# Altium schematic symbol library стабилизаторы импульсные.SchLib: 52 symbols
Pins are listed as number, name and electrical type; pins without a type are passive.

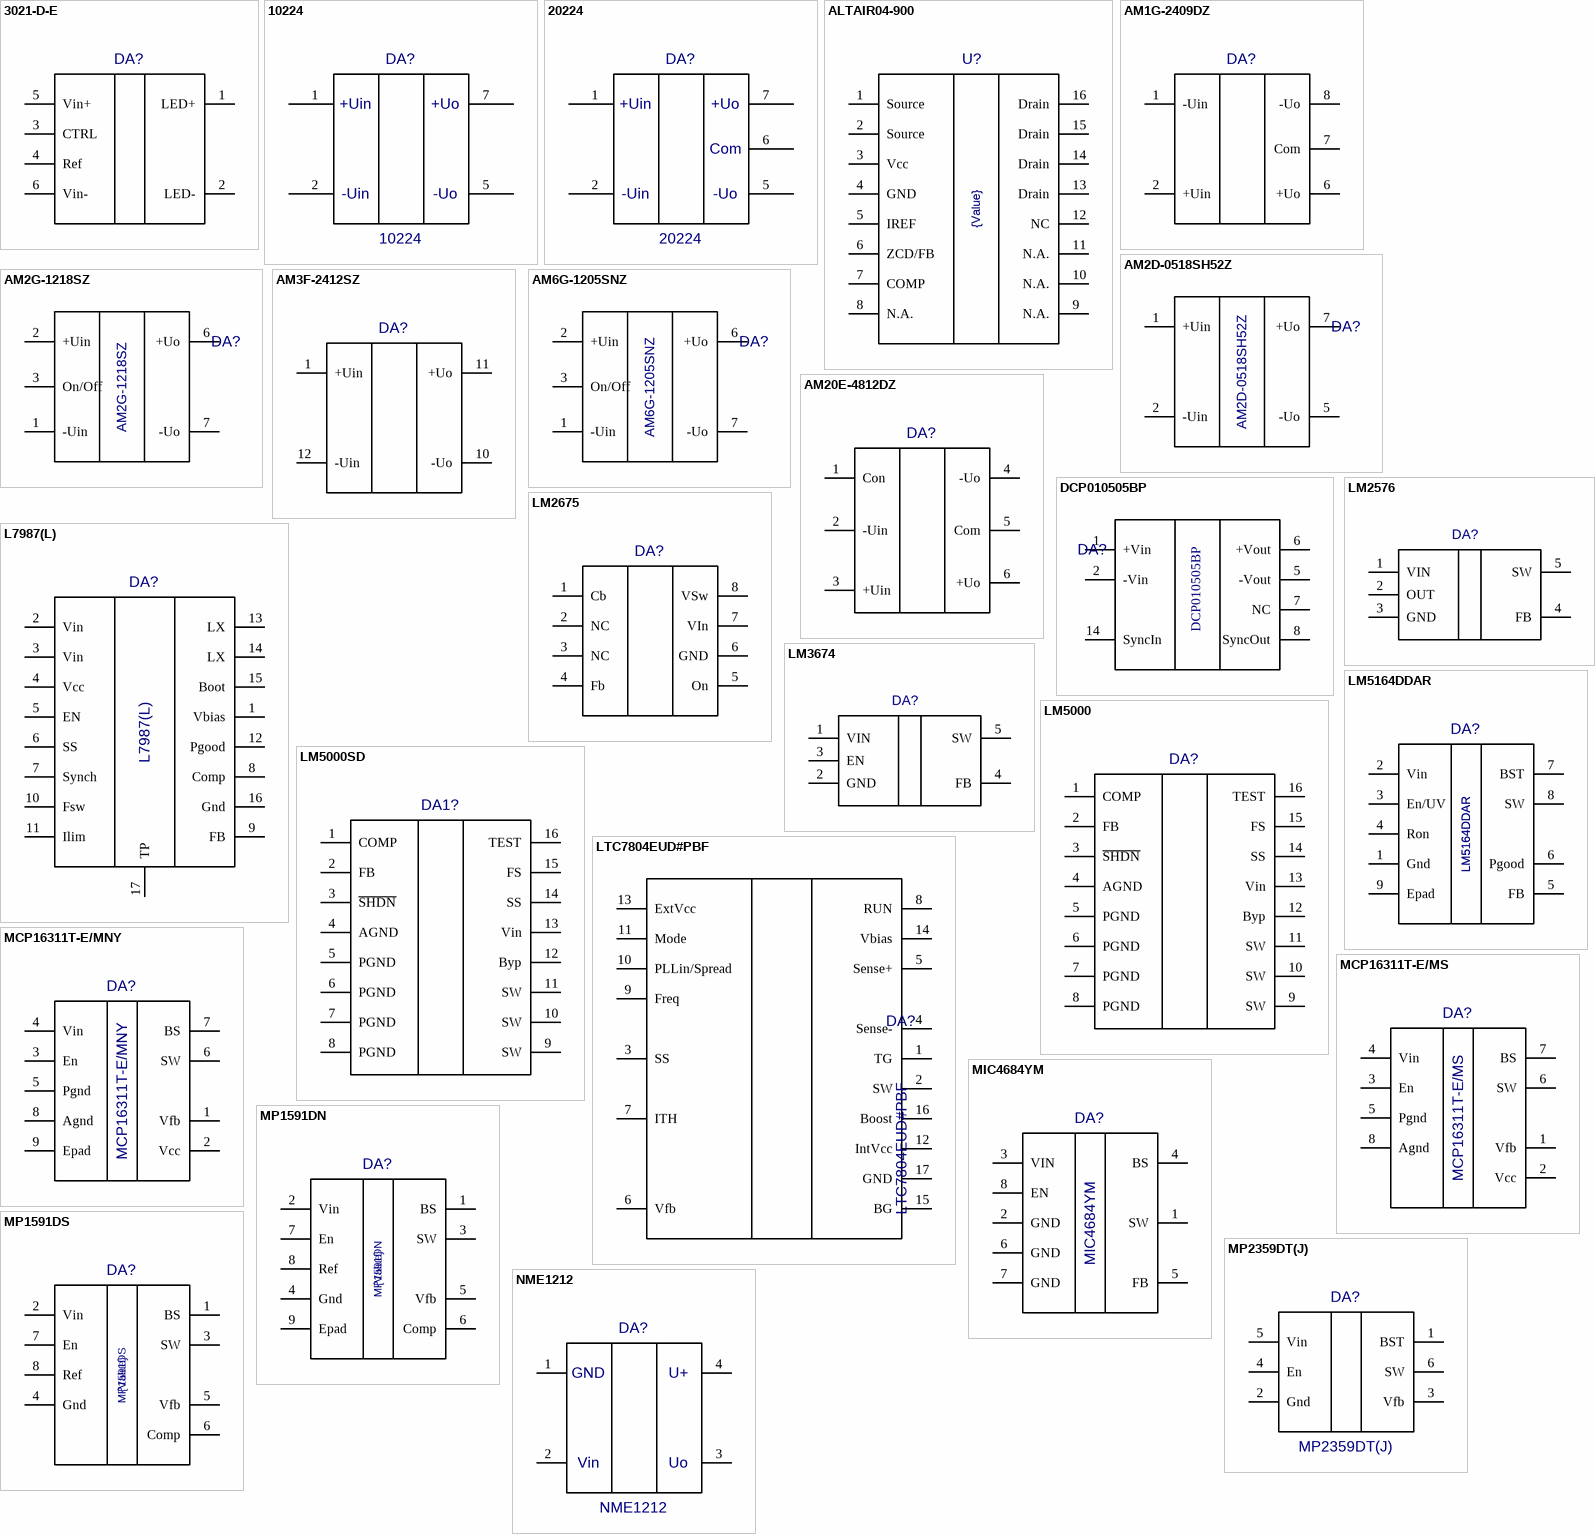
[diagram p0: symbols 3021-D-E to NME1212]

## 3021-D-E
designator DA?  (value not drawn)
Value: *
footprint 3021-D-E
pins: 1 LED+, 2 LED-, 3 CTRL, 4 Ref, 5 Vin+, 6 Vin-

## 10224
designator DA?
Value: *
footprint 10224
pins: 1, 2, 5, 7
text: +Uin; +Uo; -Uin; -Uo

## 20224
designator DA?
Value: *
footprint 20224
pins: 1, 2, 5, 6, 7
text: +Uin; +Uo; Com; -Uin; -Uo

## ALTAIR04-900
designator U?  value {Value}  (hidden comment: ALTAIR04-900)
footprint SO16
pins: 1 Source, 2 Source, 3 Vcc, 4 GND, 5 IREF, 6 ZCD/FB, 7 COMP, 8 N.A., 9 N.A., 10 N.A., 11 N.A., 12 NC, 13 Drain, 14 Drain, 15 Drain, 16 Drain

## AM1G-2409DZ
designator DA?  (value not drawn)
Value: *
footprint AM1G-2409DZ
pins: 1 -Uin, 2 +Uin, 3 hidden, 5 hidden, 6 +Uo, 7 Com, 8 -Uo

## AM2D-0518SH52Z
designator DA?
DC/DC, 2Вт, вход 4.5…5.5В, выход 18В/0.111А, изоляция 5200В DC, КПД 82%, максимальная емкостная нагрузка не более 470мкФ, SIP7, 19.5x6x10мм, -40…85°C, пластик; Value: AM2D-0518SH52Z
footprint AM2D-0518SH52Z (SIP-7)
pins: 1 +Uin, 2 -Uin, 5 hidden, 5 -Uo, 7 +Uo, 8 hidden

## AM2G-1218SZ
designator DA?
Value: AM2G-1218SZ
footprint AM2G-1218SZ (SIP-8)
pins: 1 -Uin, 2 +Uin, 3 On/Off, 5 hidden, 6 +Uo, 7 -Uo, 8 hidden

## AM3F-2412SZ
designator DA?  (value not drawn)
Value: *
footprint AM3F-2412
pins: 1 +Uin, 2 hidden, 3 hidden, 9 hidden, 10 -Uo, 11 +Uo, 12 -Uin

## AM6G-1205SNZ
designator DA?
Value: AM6G-1205SNZ
footprint AM6G-1205SNZ (SIP-8)
pins: 1 -Uin, 2 +Uin, 3 On/Off, 5 hidden, 6 +Uo, 7 -Uo, 8 hidden

## AM20E-4812DZ
designator DA?  (value not drawn)
Value: *
footprint AM20E-4812DZ
pins: 1 Con, 2 -Uin, 3 +Uin, 4 -Uo, 5 Com, 6 +Uo

## DCP010505BP
designator DA?
Value: DCP010505BP
footprint DIP14 (1,2,5,6,7,8,14) (DIP14, выводы 1,2,5,6,7,8,14)
pins: 1 +Vin, 2 -Vin, 5 -Vout, 6 +Vout, 7 NC, 8 SyncOut, 14 SyncIn

## L7987(L)
designator DA?
Value: {Value}
footprint HTSSOP16
pins: 1 Vbias, 2 Vin, 3 Vin, 4 Vcc, 5 EN, 6 SS, 7 Synch, 8 Comp, 9 FB, 10 Fsw, 11 Ilim, 12 Pgood, 13 LX, 14 LX, 15 Boot, 16 Gnd, 17 TP

## LM2576
designator DA?  (value not drawn)
Value: *
pins: 1 VIN, 2 OUT, 3 GND, 4 FB, 5 SW

## LM2675
designator DA?  (value not drawn)
Value: *
footprint SO8
pins: 1 Cb, 2 NC, 3 NC, 4 Fb, 5 On, 6 GND, 7 VIn, 8 VSw

## LM3674
designator DA?  (value not drawn)
Value: *
footprint SOT23-5
pins: 1 VIN, 2 GND, 3 EN, 4 FB, 5 SW

## LM5000
designator DA?  (value not drawn)
Value: *
footprint TSSOP16
pins: 1 COMP, 2 FB, 3 ~{SHDN}, 4 AGND, 5 PGND, 6 PGND, 7 PGND, 8 PGND, 9 SW, 10 SW, 11 SW, 12 Byp, 13 Vin, 14 SS, 15 FS, 16 TEST

## LM5000SD
designator DA1?  (value not drawn)
Value: *
footprint WSON16
pins: 1 COMP, 2 FB, 3 ~{SHDN}, 4 AGND, 5 PGND, 6 PGND, 7 PGND, 8 PGND, 9 SW, 10 SW, 11 SW, 12 Byp, 13 Vin, 14 SS, 15 FS, 16 TEST, 17 hidden

## LM5164DDAR
designator DA?
100-V Input, 1-A synchronous buck DC/DC converter with ultra-low IQ; Value: LM5164DDAR
footprint HSOP8
pins: 1 Gnd, 2 Vin, 3 En/UV, 4 Ron, 5 FB, 6 Pgood, 7 BST, 8 SW, 9 Epad

## LTC7804EUD#PBF
designator DA?
Value: LTC7804EUD#PBF
footprint QFN-16_With_Termo_Pad (QFN, 16-Leads, Body 3,00x3,00mm, Pitch 0,50mm, Thermal Pad 1,45x1,45mm, IPC Medium Density)
pins: 1 TG, 2 SW, 3 SS, 4 Sense-, 5 Sense+, 6 Vfb, 7 ITH, 8 RUN, 9 Freq, 10 PLLin/Spread, 11 Mode, 12 IntVcc, 13 ExtVcc, 14 Vbias, 15 BG, 16 Boost, 17 GND

## MCP16311T-E/MNY
designator DA?
Value: *
pins: 1 Vfb, 2 Vcc, 3 En, 4 Vin, 5 Pgnd, 6 SW, 7 BS, 8 Agnd, 9 Epad

## MCP16311T-E/MS
designator DA?
Value: *
pins: 1 Vfb, 2 Vcc, 3 En, 4 Vin, 5 Pgnd, 6 SW, 7 BS, 8 Agnd

## MIC4684YM
designator DA?
Value: *
footprint SO8
pins: 1 SW, 2 GND, 3 VIN, 4 BS, 5 FB, 6 GND, 7 GND, 8 EN

## MP1591DN
designator DA?  value {Value}
footprint HSOP8
pins: 1 BS, 2 Vin, 3 SW, 4 Gnd, 5 Vfb, 6 Comp, 7 En, 8 Ref, 9 Epad

## MP1591DS
designator DA?  value {Value}
footprint SO8
pins: 1 BS, 2 Vin, 3 SW, 4 Gnd, 5 Vfb, 6 Comp, 7 En, 8 Ref

## MP2359DT(J)
designator DA?
Value: *
footprint SOT23-6
pins: 1 BST, 2 Gnd, 3 Vfb, 4 En, 5 Vin, 6 SW

## NME1212
designator DA?
Value: *
footprint TME2405S
pins: 1 GND, 2 Vin, 3 U0, 4 U+
text: Uo

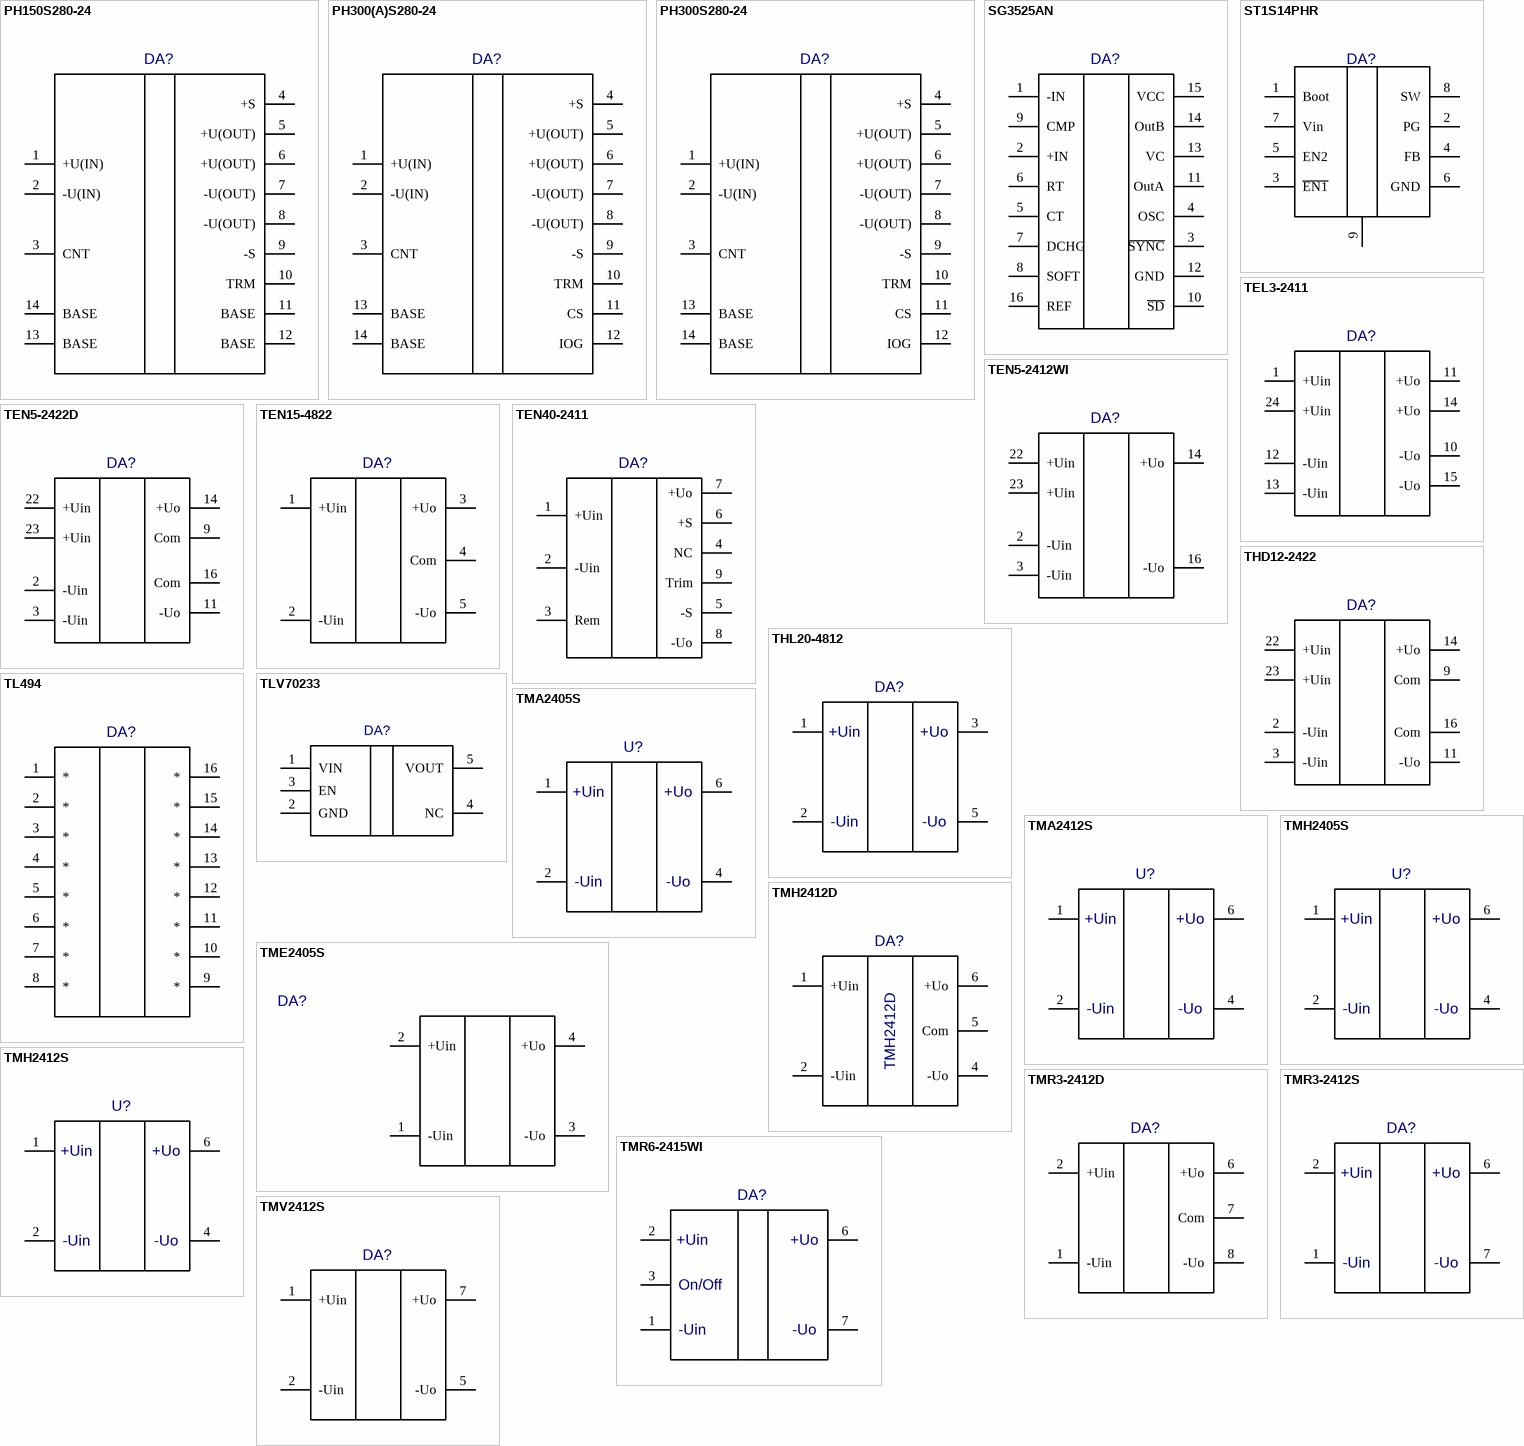
[diagram p1: symbols PH150S280-24 to TMV2412S]

## PH150S280-24
designator DA?  (value not drawn)
Value: *
footprint PH150S280-24
pins: 1 +U(IN), 2 -U(IN), 3 CNT, 4 +S, 5 +U(OUT), 6 +U(OUT), 7 -U(OUT), 8 -U(OUT), 9 -S, 10 TRM, 11 BASE, 12 BASE, 13 BASE, 14 BASE

## PH300(A)S280-24
designator DA?  (value not drawn)
Value: *
footprint PH300A(S)280-24
pins: 1 +U(IN), 2 -U(IN), 3 CNT, 4 +S, 5 +U(OUT), 6 +U(OUT), 7 -U(OUT), 8 -U(OUT), 9 -S, 10 TRM, 11 CS, 12 IOG, 13 BASE, 14 BASE, 15 hidden, 16 hidden, 17 +U(IN) hidden, 18 -U(IN) hidden, 19 CNT hidden, 20 +S hidden, 21 +U(OUT) hidden, 22 +U(OUT) hidden, 23 -U(OUT) hidden, 24 -U(OUT) hidden, 25 -S hidden, 26 TRM hidden, 27 hidden, 28 hidden, 29 hidden, 30 hidden

## PH300S280-24
designator DA?  (value not drawn)
Value: *
footprint PH300S280-24
pins: 1 +U(IN), 2 -U(IN), 3 CNT, 4 +S, 5 +U(OUT), 6 +U(OUT), 7 -U(OUT), 8 -U(OUT), 9 -S, 10 TRM, 11 CS, 12 IOG, 13 BASE, 14 BASE, 15 hidden, 16 hidden

## SG3525AN
designator DA?  (value not drawn)
Value: *
footprint DIP16
pins: 1 -IN, 2 +IN, 3 ~{SYNC}, 4 OSC, 5 CT, 6 RT, 7 DCHG, 8 SOFT, 9 CMP, 10 ~{SD}, 11 OutA, 12 GND, 13 VC, 14 OutB, 15 VCC, 16 REF

## ST1S14PHR
designator DA?  (value not drawn)
Value: *
footprint HSOP8
pins: 1 Boot, 2 PG, 3 ~{EN1}, 4 FB, 5 EN2, 6 GND, 7 Vin, 8 SW, 9

## TEL3-2411
designator DA?  (value not drawn)
Value: *
footprint TEL3-2411
pins: 1 +Uin, 2 hidden, 3 hidden, 10 -Uo, 11 +Uo, 12 -Uin, 13 -Uin, 14 +Uo, 15 -Uo, 22 hidden, 23 hidden, 24 +Uin

## TEN5-2412WI
designator DA?  (value not drawn)
Value: *
footprint TEN5-2412WI
pins: 2 -Uin, 3 -Uin, 11 hidden, 14 +Uo, 16 -Uo, 22 +Uin, 23 +Uin

## TEN5-2422D
designator DA?  (value not drawn)
Value: *
footprint TEN5-2422D
pins: 2 -Uin, 3 -Uin, 9 Com, 11 -Uo, 14 +Uo, 16 Com, 22 +Uin, 23 +Uin

## TEN15-4822
designator DA?  (value not drawn)
Value: *
footprint TEN15-4822
pins: 1 +Uin, 2 -Uin, 3 +Uo, 4 Com, 5 -Uo

## TEN40-2411
designator DA?  (value not drawn)
Value: *
footprint TEN40-2411
pins: 1 +Uin, 2 -Uin, 3 Rem, 4 NC, 5 -S, 6 +S, 7 +Uo, 8 -Uo, 9 Trim

## THD12-2422
designator DA?  (value not drawn)
Value: *
footprint THD12-2422
pins: 0 hidden, 2 -Uin, 3 -Uin, 9 Com, 11 -Uo, 14 +Uo, 16 Com, 22 +Uin, 23 +Uin

## THL20-4812
designator DA?  (value not drawn)
Value: *
footprint THL20-4812
pins: 1, 2, 3, 4 hidden, 5, 6 hidden
text: +Uin; +Uo; -Uin; -Uo

## TL494
designator DA?  (value not drawn)
Value: *
footprint SO16
pins: 1 *, 2 *, 3 *, 4 *, 5 *, 6 *, 7 *, 8 *, 9 *, 10 *, 11 *, 12 *, 13 *, 14 *, 15 *, 16 *

## TLV70233
designator DA?  (value not drawn)
Value: *
footprint SOT23-5
pins: 1 VIN, 2 GND, 3 EN, 4 NC, 5 VOUT

## TMA2405S
designator U?  (value not drawn)
Value: *
footprint TMA2405S
pins: 1, 2, 4, 6
text: +Uin; +Uo; -Uin; -Uo

## TMA2412S
designator U?  (value not drawn)
Value: *
footprint TMA2412S
pins: 1, 2, 4, 6
text: +Uin; +Uo; -Uin; -Uo

## TME2405S
designator DA?  (value not drawn)
Value: *
footprint TME2405S
pins: 1 -Uin, 2 +Uin, 3 -Uo, 4 +Uo

## TMH2405S
designator U?  (value not drawn)
Value: *
footprint TMH2405S
pins: 1, 2, 4, 6
text: +Uin; +Uo; -Uin; -Uo

## TMH2412D
designator DA?
Value: *
footprint TMH2405D
pins: 1 +Uin, 2 -Uin, 4 -Uo, 5 Com, 6 +Uo

## TMH2412S
designator U?  (value not drawn)
Value: *
footprint TMH2412S
pins: 1, 2, 4, 6
text: +Uin; +Uo; -Uin; -Uo

## TMR3-2412D
designator DA?  (value not drawn)
Value: *
footprint TMR3-2412S
pins: 1 -Uin, 2 +Uin, 3 hidden, 5 hidden, 6 +Uo, 7 Com, 8 -Uo

## TMR3-2412S
designator DA?  (value not drawn)
Value: *
footprint TMR3-2412S
pins: 1, 2, 3 hidden, 5 hidden, 6, 7, 8 hidden
text: +Uin; +Uo; -Uin; -Uo

## TMR6-2415WI
designator DA?  (value not drawn)
Value: *
footprint TMR6-2415WI
pins: 1, 2, 3, 5 hidden, 6, 7, 8 hidden
text: +Uin; +Uo; On/Off; -Uin; -Uo

## TMV2412S
designator DA?  (value not drawn)
Value: *
footprint TMV2412S
pins: 1 +Uin, 2 -Uin, 5 -Uo, 7 +Uo

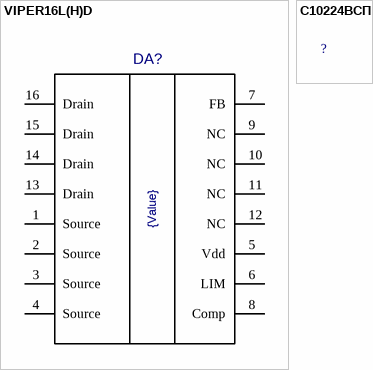
[diagram p2: symbols VIPER16L(H)D to С10224ВСП]

## VIPER16L(H)D
designator DA?  value {Value}  (hidden comment: VIPER16L(H)D)
footprint SO16
pins: 1 Source, 2 Source, 3 Source, 4 Source, 5 Vdd, 6 LIM, 7 FB, 8 Comp, 9 NC, 10 NC, 11 NC, 12 NC, 13 Drain, 14 Drain, 15 Drain, 16 Drain

## С10224ВСП
designator ?  (value not drawn)
Value: *
footprint С10224ВСП
pins: 1 hidden, 2 hidden, 3 hidden, 4 hidden